# EAGLE library part 2212P003 (library 2212P003)
Konami SCC 2212P003
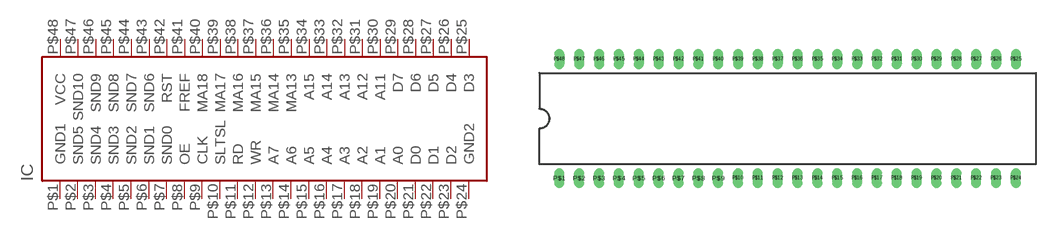
[diagram p0: symbol with the pads of DIP48; footprint DIP48]

Designator prefix IC

## 2212P003P  [DIP48]
P$1  GND1
P$2  SND5
P$3  SND4
P$4  SND3
P$5  SND2
P$6  SND1
P$7  SND0
P$8  OE
P$9  CLK
P$10  SLTSL
P$11  RD
P$12  WR
P$13  A7
P$14  A6
P$15  A5
P$16  A4
P$17  A3
P$18  A2
P$19  A1
P$20  A0
P$21  D0
P$22  D1
P$23  D2
P$24  GND2
P$25  D3
P$26  D4
P$27  D5
P$28  D6
P$29  D7
P$30  A11
P$31  A12
P$32  A13
P$33  A14
P$34  A15
P$35  MA13
P$36  MA14
P$37  MA15
P$38  MA16
P$39  MA17
P$40  MA18
P$41  FREF
P$42  RST
P$43  SND6
P$44  SND7
P$45  SND8
P$46  SND9
P$47  SND10
P$48  VCC

## Footprint DIP48 (pad centres in mm)
Dual In Line package type P
drill 0.8 long: P$1 -29.21,-7.62; P$2 -26.67,-7.62; P$3 -24.13,-7.62; P$4 -21.59,-7.62; P$5 -19.05,-7.62; P$6 -16.51,-7.62; P$7 -13.97,-7.62; P$8 -11.43,-7.62; P$9 -8.89,-7.62; P$10 -6.35,-7.62; P$11 -3.81,-7.62; P$12 -1.27,-7.62; P$13 1.27,-7.62; P$14 3.81,-7.62; P$15 6.35,-7.62; P$16 8.89,-7.62; P$17 11.43,-7.62; P$18 13.97,-7.62; P$19 16.51,-7.62; P$20 19.05,-7.62; P$21 21.59,-7.62; P$22 24.13,-7.62; P$23 26.67,-7.62; P$24 29.21,-7.62; P$25 29.21,7.62; P$26 26.67,7.62; P$27 24.13,7.62; P$28 21.59,7.62; P$29 19.05,7.62; P$30 16.51,7.62; P$31 13.97,7.62; P$32 11.43,7.62; P$33 8.89,7.62; P$34 6.35,7.62; P$35 3.81,7.62; P$36 1.27,7.62; P$37 -1.27,7.62; P$38 -3.81,7.62; P$39 -6.35,7.62; P$40 -8.89,7.62; P$41 -11.43,7.62; P$42 -13.97,7.62; P$43 -16.51,7.62; P$44 -19.05,7.62; P$45 -21.59,7.62; P$46 -24.13,7.62; P$47 -26.67,7.62; P$48 -29.21,7.62